# Altium footprint library DataLogger.PcbLib: 23 footprints (part 1 of 2)
Each footprint in its own frame and in the unit in brackets; x right, y up, seen from the top. Pads: shape width x height; smd on the part's side, far side on the other; paste and mask are expansions set on the pad; w line width, h text height; cw(c..) or ccw(c..) is an arc to the next point about the centre after c.
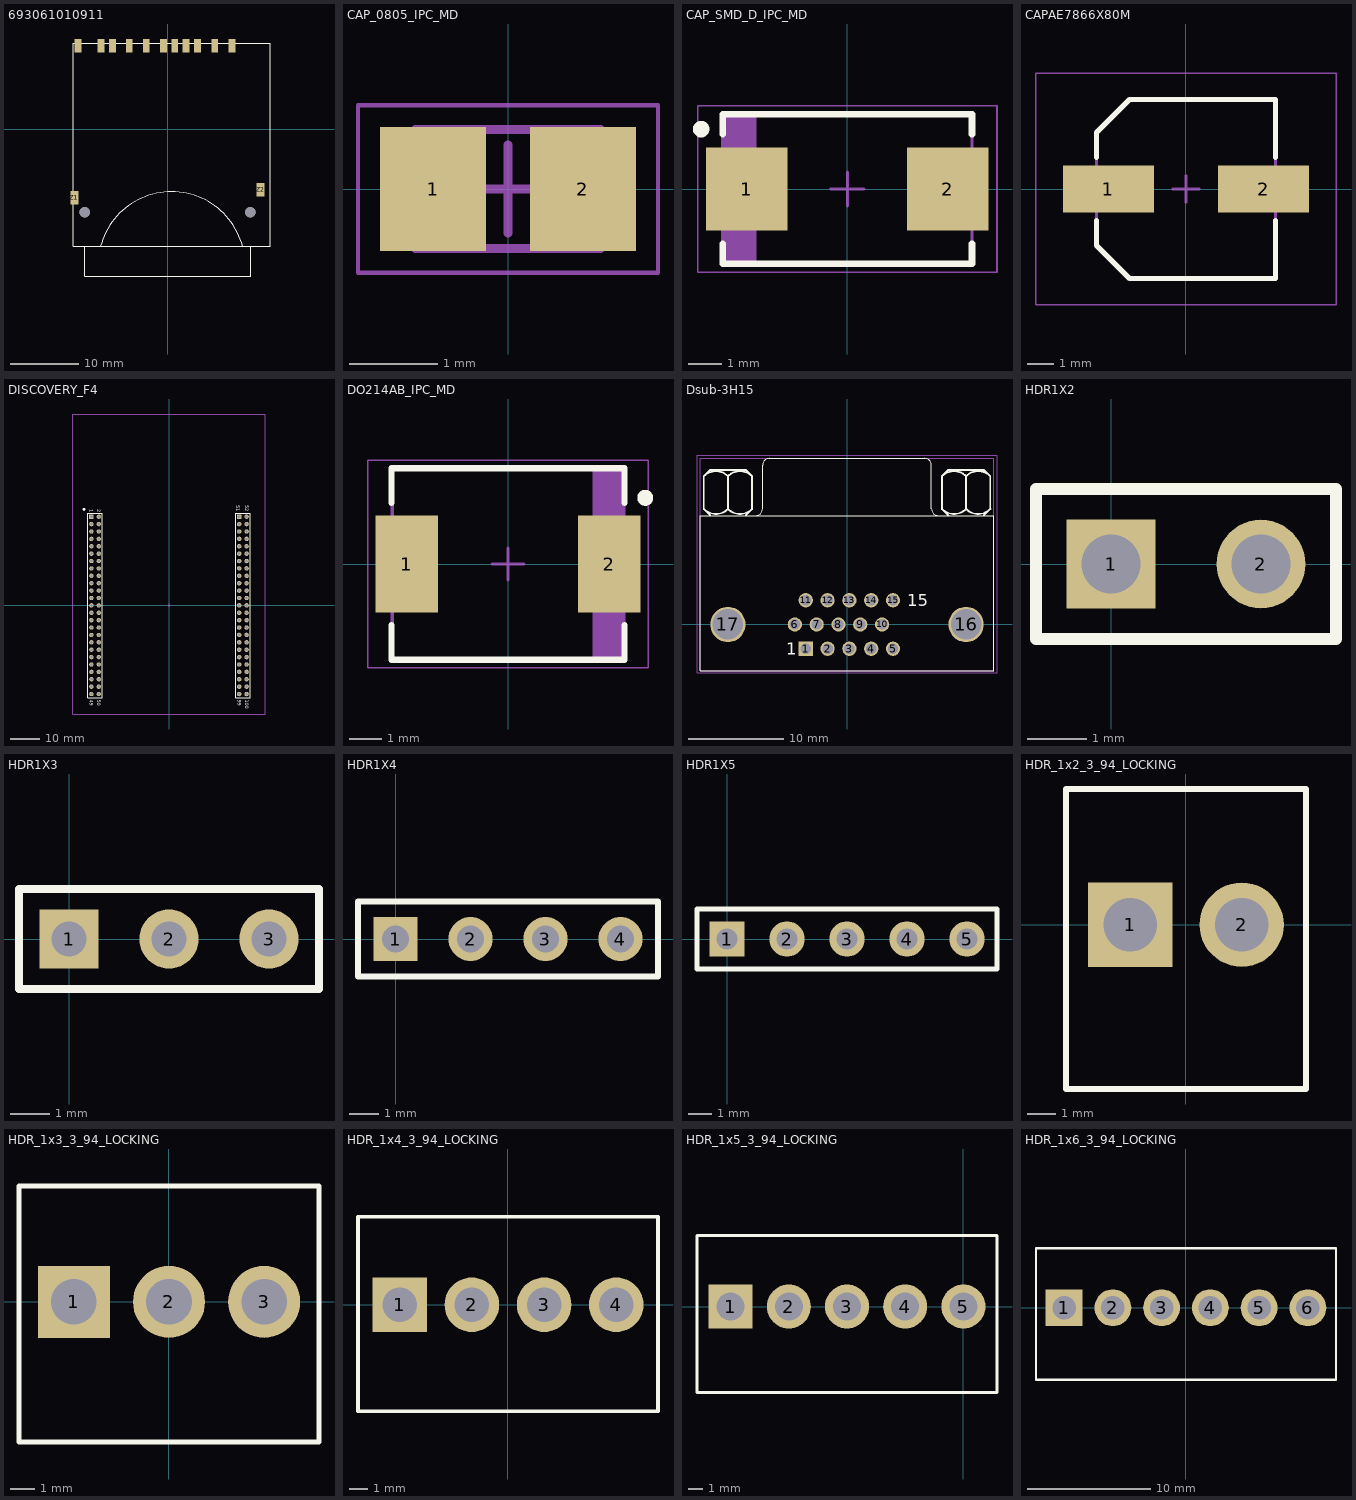
[diagram p0: the footprints below, top view; thin cyan lines are the x and y axes]

## 693061010911 [mm] "WR-CRD SD_Push and Push_with card detection_9 pins"
height 2.85
pads (15):
  rect 1x2 smd: 1(6.9,12.155) 2(4.4,12.155) 3(1.05,12.155) 4(-0.6,12.155) 5(-3.1,12.155) 6(-5.6,12.155) 7(-8.02,12.155) 8(-9.72,12.155) 9(9.4,12.155) CD(2.7,12.155) WP(-13.07,12.155)
  rect 1.2x2 smd: Z1(-13.6,-10.055) Z2(13.6,-8.855)
  round 1.5 hole 1.5 unplated: ""(-12.1,-12.155) ""(12.1,-12.155)
Top Overlay:
  lines w0.127: -12.1,-17.155 -12.1,-21.5 12.15,-21.5 12.15,-17.155 ; -9.8,-17.155 cw(c0.6,-19.915) 11,-17.155 ; -13.77,-17.155 -13.77,12.545 15.03,12.545 15.03,-17.155 -13.77,-17.155
3D body "693061010911.stp": height 3.06, standoff -0.49, extent -13.8,-17.16 15,12.74

## CAP_0805_IPC_MD [mm] "Chip Capacitor, 2-Leads, 0805, SAMSUNG, IPC Medium Density"
height 1.35
pads (2):
  rect 1.2x1.4 smd: 1(-0.85,0) 2(0.85,0)
Mechanical 13:
  lines w0.1: -1.05,-0.675 -1.05,0.675 1.05,0.675 1.05,-0.675 -1.05,-0.675
Mechanical 15:
  lines w0.05: -1.7,-0.95 1.7,-0.95 1.7,0.95 -1.7,0.95 -1.7,-0.95
  lines w0.1: -0.5,0 0.5,0 ; 0,-0.5 0,0.5
3D body "CAP_0805_IPC_MD.step": height 1.35, standoff 0, extent -1.05,-0.675 1.05,0.675

## CAP_SMD_D_IPC_MD [mm] "Capacitor SMD D, IPC Medium Density"
height 3.1
pads (2):
  rect 2.45x2.5 smd: 1(-3.025,0) 2(3.025,0)
Top Overlay:
  circle w0.25: c-4.4,1.8 r0.125
  lines w0.2: -3.75,-1.65 -3.75,-2.25 3.75,-2.25 3.75,-1.65 ; -3.75,1.65 -3.75,2.25 3.75,2.25 3.75,1.65
Mechanical 13:
  rectangle: -3.75,-2.25 -2.741,2.25
  lines w0.1: -3.75,-2.25 -3.75,2.25 3.75,2.25 3.75,-2.25 -3.75,-2.25
Mechanical 15:
  lines w0.05: -4.5,-2.5 -4.5,2.5 4.5,2.5 4.5,-2.5 -4.5,-2.5
  lines w0.1: -0.5,0 0.5,0 ; 0,-0.5 0,0.5
3D body "CAP_SMD_D_IPC_MD.step": height 3.1, standoff 0, extent -3.97,-2.25 3.97,2.25

## CAPAE7866X80M [mm] "Aluminum Electrolytic Capacitor, Body 6,60x6,60x8,00mm, IPC Low Density"
height 8
pads (2):
  rect 3.45x1.8 smd: 1(-2.95,0) 2(2.95,0)
Top Overlay:
  lines w0.2: -3.4,-1.2 -3.4,-2.15 -2.15,-3.4 3.4,-3.4 3.4,-1.2 ; -3.4,1.2 -3.4,2.15 -2.15,3.4 3.4,3.4 3.4,1.2
Mechanical 13:
  lines w0.1: -3.4,-2.15 -2.15,-3.4 3.4,-3.4 3.4,3.4 -2.15,3.4 -3.4,2.15 -3.4,-2.15
Mechanical 15:
  lines w0.05: -5.7,-4.4 -5.7,4.4 5.7,4.4 5.7,-4.4 -5.7,-4.4
  lines w0.1: -0.5,0 0.5,0 ; 0,-0.5 0,0.5
3D body "CAPAE7866X80M.step": height 8, standoff 0, extent -3.9,-3.4 3.9,3.4

## DISCOVERY_F4 [mm] "Connector; Header; 25x2 Position"
pads (100):
  rect 1.5x1.5 hole 1: 1(-26.67,30.48) 51(24.13,30.48)
  round 1.5 hole 1: 2(-24.13,30.48) 3(-26.67,27.94) 4(-24.13,27.94) 5(-26.67,25.4) 6(-24.13,25.4) 7(-26.67,22.86) 8(-24.13,22.86) 9(-26.67,20.32) 10(-24.13,20.32) 11(-26.67,17.78) 12(-24.13,17.78) 13(-26.67,15.24) 14(-24.13,15.24) 15(-26.67,12.7) 16(-24.13,12.7) 17(-26.67,10.16) 18(-24.13,10.16) 19(-26.67,7.62) 20(-24.13,7.62) 21(-26.67,5.08) 22(-24.13,5.08) 23(-26.67,2.54) 24(-24.13,2.54) 25(-26.67,0) 26(-24.13,0) 27(-26.67,-2.54) 28(-24.13,-2.54) 29(-26.67,-5.08) 30(-24.13,-5.08) 31(-26.67,-7.62) 32(-24.13,-7.62) 33(-26.67,-10.16) 34(-24.13,-10.16) 35(-26.67,-12.7) 36(-24.13,-12.7) 37(-26.67,-15.24) 38(-24.13,-15.24) 39(-26.67,-17.78) 40(-24.13,-17.78) 41(-26.67,-20.32) 42(-24.13,-20.32) 43(-26.67,-22.86) 44(-24.13,-22.86) 45(-26.67,-25.4) 46(-24.13,-25.4) 47(-26.67,-27.94) 48(-24.13,-27.94) 49(-26.67,-30.48) 50(-24.13,-30.48) 52(26.67,30.48)
  round 1.524 hole 1: 53(24.13,27.94) 54(26.67,27.94) 55(24.13,25.4) 56(26.67,25.4) 57(24.13,22.86) 58(26.67,22.86) 59(24.13,20.32) 60(26.67,20.32) 61(24.13,17.78) 62(26.67,17.78) 63(24.13,15.24) 64(26.67,15.24) 65(24.13,12.7) 66(26.67,12.7) 67(24.13,10.16) 68(26.67,10.16) 69(24.13,7.62) 70(26.67,7.62) 71(24.13,5.08) 72(26.67,5.08) 73(24.13,2.54) 74(26.67,2.54) 75(24.13,0) 76(26.67,0) 77(24.13,-2.54) 78(26.67,-2.54) 79(24.13,-5.08) 80(26.67,-5.08) 81(24.13,-7.62) 82(26.67,-7.62) 83(24.13,-10.16) 84(26.67,-10.16) 85(24.13,-12.7) 86(26.67,-12.7) 87(24.13,-15.24) 88(26.67,-15.24) 89(24.13,-17.78) 90(26.67,-17.78) 91(24.13,-20.32) 92(26.67,-20.32) 93(24.13,-22.86) 94(26.67,-22.86) 95(24.13,-25.4) 96(26.67,-25.4) 97(24.13,-27.94) 98(26.67,-27.94) 99(24.13,-30.48) 100(26.67,-30.48)
Top Overlay:
  circle w0.5: c-29.21,33.02 r0.25
  lines w0.2: -27.94,-31.75 -27.94,31.75 -22.86,31.75 -22.86,-31.75 -27.94,-31.75 ; 22.86,-31.75 27.94,-31.75 27.94,31.75 22.86,31.75 22.86,-31.75
  text "52" at 26.13,34.48 h1.27
  text "51" at 23.13,34.48 h1.27
  text "99" at 23.622,-32.512 h1.27
  text "100" at 26.162,-32.512 h1.27
  text "50" at -24.638,-32.512 h1.27
  text "49" at -27.178,-32.512 h1.27
  text "1" at -27.178,33.02 h1.27
  text "2" at -24.638,33.02 h1.27
Mechanical 15:
  lines w0.1: -0.5,0 0.5,0 ; 0,-0.5 0,0.5 ; -33.02,-37.338 33.02,-37.338 33.02,65.786 -33.02,65.786 -33.02,-37.338
3D body "stm30f4.STEP": height 17.5, standoff -5.5, extent -32.77,-36.99 32.73,65.576

## DO214AB_IPC_MD [mm] "Molded Diode, DO214AB, Diotec Semiconductor, IPC Medium Density"
height 2.5
pads (2):
  rect 1.95x3.05 smd: 1(-3.175,0) 2(3.175,0)
Top Overlay:
  circle w0.25: c4.3,2.075 r0.125
  lines w0.2: -3.65,-1.925 -3.65,-3 3.65,-3 3.65,-1.925 ; -3.65,1.925 -3.65,3 3.65,3 3.65,1.925
Mechanical 13:
  rectangle: 2.65,-3 3.625,3
  lines w0.1: -3.625,-3 -3.625,3 3.625,3 3.625,-3 -3.625,-3
Mechanical 15:
  lines w0.05: -4.4,-3.25 -4.4,3.25 4.4,3.25 4.4,-3.25 -4.4,-3.25
  lines w0.1: -0.5,0 0.5,0 ; 0,-0.5 0,0.5
3D body "DO214AB_IPC_MD.step": height 2.5, standoff 0, extent -3.845,-3 3.845,3

## Dsub-3H15 [mm] "Dsub 15 pins, right angled"
height 12.5
pads (17):
  rect 1.5x1.5 hole 1.1: 1(-4.33,-2.54)
  round 1.5 hole 1.1: 2(-2.04,-2.54) 3(0.25,-2.54) 4(2.54,-2.54) 5(4.83,-2.54) 6(-5.475,0) 7(-3.185,0) 8(-0.895,0) 9(1.395,0) 10(3.685,0) 11(-4.33,2.54) 12(-2.04,2.54) 13(0.25,2.54) 14(2.54,2.54) 15(4.83,2.54)
  round 3.7 hole 3.2: 16(12.5,0) 17(-12.5,0)
Top Overlay:
  lines w0.127: -9.56,11.435 ccw(c-9.56,12.13) -8.865,12.13 -8.865,16.73 ; -8.86,16.735 cw(c-8.165,16.735) -8.165,17.43 8.165,17.43 cw(c8.165,16.735) 8.86,16.735 ; 8.865,16.73 8.865,12.13 ccw(c9.56,12.13) 9.56,11.435 ; -15.4,-4.87 15.4,-4.87 15.4,11.43 -15.4,11.43 -15.4,-4.87
  lines w0.2: -14.364,11.451 -15.038,12.125 -15.038,15.58 -14.403,16.215 -10.593,16.215 -9.958,15.58 ; -12.498,12.125 -12.498,15.565 ; -10.629,11.454 -9.958,12.125 -9.958,15.565 ; -9.958,14.301 -9.958,14.513 ; 10.636,11.451 9.962,12.125 9.962,15.58 10.597,16.215 14.407,16.215 15.042,15.58 ; 12.502,12.125 12.502,15.565 ; 14.371,11.454 15.042,12.125 15.042,15.565 ; 15.042,14.301 15.042,14.513
  lines w0.203: -15.04,12.122 ccw(c-13.768,13.395) -12.496,12.122 ; -15.038,15.565 cw(c-13.766,14.293) -12.493,15.565 ; -12.502,15.565 cw(c-11.23,14.293) -9.958,15.565 ; -12.5,12.122 ccw(c-11.228,13.395) -9.956,12.122 ; 9.96,12.122 ccw(c11.232,13.395) 12.504,12.122 ; 9.962,15.565 cw(c11.234,14.293) 12.507,15.565 ; 12.498,15.565 cw(c13.77,14.293) 15.042,15.565 ; 12.5,12.122 ccw(c13.772,13.395) 15.044,12.122
  text "1" at -6.36,-3.175 h1.27
  text "15" at 6.34,1.905 h1.27
Mechanical 13:
  lines w0.127: -15.4,-4.87 15.4,-4.87 15.4,17.43 -15.4,17.43 -15.4,-4.87
Mechanical 15:
  lines w0.05: -15.748,-5.08 -15.748,17.78 15.748,17.78 15.748,-5.08 -15.748,-5.08
3D body "Download_STP_618015330923 (2).stp": height 12.51, standoff -3.79, extent -15.4,-4.862 15.4,17.438

## HDR1X2 [mm] "Connector; Header; 2 Position"
pads (2):
  rect 1.5x1.5 hole 1: 1(0,0)
  round 1.5 hole 1: 2(2.54,0)
Top Overlay:
  lines w0.2: -1.27,-1.27 3.81,-1.27 3.81,1.27 -1.27,1.27 -1.27,-1.27
3D body "DS1021-1x2SF11.stp": height 8.6, standoff -3, extent -1.27,-1.27 3.81,1.27

## HDR1X3 [mm] "Connector; Header; 3 Position"
pads (3):
  rect 1.5x1.5 hole 0.9: 1(0,0)
  round 1.5 hole 0.9: 2(2.54,0) 3(5.08,0)
Top Overlay:
  lines w0.2: -1.27,-1.27 6.35,-1.27 6.35,1.27 -1.27,1.27 -1.27,-1.27
3D body "DS1021-1x3SF11.stp": height 8.6, standoff -3, extent -1.27,-1.27 6.35,1.27

## HDR1X4 [mm] "Connector; Header; 4 Position"
pads (4):
  rect 1.5x1.5 hole 0.9: 1(0,0)
  round 1.5 hole 0.9: 2(2.54,0) 3(5.08,0) 4(7.62,0)
Top Overlay:
  lines w0.2: -1.27,-1.27 -1.27,1.27 8.89,1.27 8.89,-1.27 -1.27,-1.27
3D body "DS1021-1x4SF11.stp": height 8.6, standoff -3, extent -1.27,-1.27 8.89,1.27

## HDR1X5 [mm] "Connector; Header; 5 Position"
pads (5):
  rect 1.5x1.5 hole 0.9: 1(0,0)
  round 1.5 hole 0.9: 2(2.54,0) 3(5.08,0) 4(7.62,0) 5(10.16,0)
Top Overlay:
  lines w0.2: -1.27,-1.27 11.43,-1.27 11.43,1.27 -1.27,1.27 -1.27,-1.27
3D body "DS1021-1x5SF11.stp": height 8.6, standoff -3, extent -1.27,-1.27 11.43,1.27

## HDR_1x2_3_94_LOCKING [mm]
pads (2):
  rect 3x3 hole 1.9: 1(-1.98,0)
  round 3 hole 1.9: 2(1.98,0)
Top Overlay:
  lines w0.2: -4.266,-5.842 4.266,-5.842 4.266,4.826 -4.266,4.826 -4.266,-5.842

## HDR_1x3_3_94_LOCKING [mm]
pads (3):
  rect 3x3 hole 1.9: 1(-3.96,0)
  round 3 hole 1.9: 2(0,0) 3(3.96,0)
Top Overlay:
  lines w0.2: -6.246,-5.842 6.246,-5.842 6.246,4.826 -6.246,4.826 -6.246,-5.842

## HDR_1x4_3_94_LOCKING [mm]
pads (4):
  rect 3x3 hole 1.9: 1(-5.94,0)
  round 3 hole 1.9: 2(-1.98,0) 3(1.98,0) 4(5.94,0)
Top Overlay:
  lines w0.2: -8.226,-5.842 -8.226,4.826 8.226,4.826 8.226,-5.842 -8.226,-5.842
3D body "Download_STP_645004114822 (1).stp": height 13.85, standoff -3.6, extent -7.975,-5.605 7.975,4.599

## HDR_1x5_3_94_LOCKING [mm]
pads (5):
  rect 3x3 hole 1.9: 1(-15.84,0)
  round 3 hole 1.9: 2(-11.88,0) 3(-7.92,0) 4(-3.96,0) 5(0,0)
Top Overlay:
  lines w0.2: -18.126,-5.842 -18.126,4.826 2.286,4.826 2.286,-5.842 -18.126,-5.842
3D body "Download_STP_645005114822.stp": height 13.85, standoff -3.6, extent -17.921,-5.605 1.989,4.598

## HDR_1x6_3_94_LOCKING [mm]
pads (6):
  rect 3x3 hole 1.9: 1(-9.9,0)
  round 3 hole 1.9: 2(-5.94,0) 3(-1.98,0) 4(1.98,0) 5(5.94,0) 6(9.9,0)
Top Overlay:
  lines w0.2: -12.186,-5.842 12.186,-5.842 12.186,4.826 -12.186,4.826 -12.186,-5.842
3D body "Download_STP_645006114822.stp": height 13.85, standoff -3.6, extent -11.935,-5.605 11.935,4.597